# Altium footprint library KC_Amp.PCBLIB: 7 footprints
Each footprint in its own frame and in the unit in brackets; x right, y up, seen from the top. Pads: shape width x height; smd on the part's side, far side on the other; paste and mask are expansions set on the pad; w line width, h text height; cw(c..) or ccw(c..) is an arc to the next point about the centre after c.
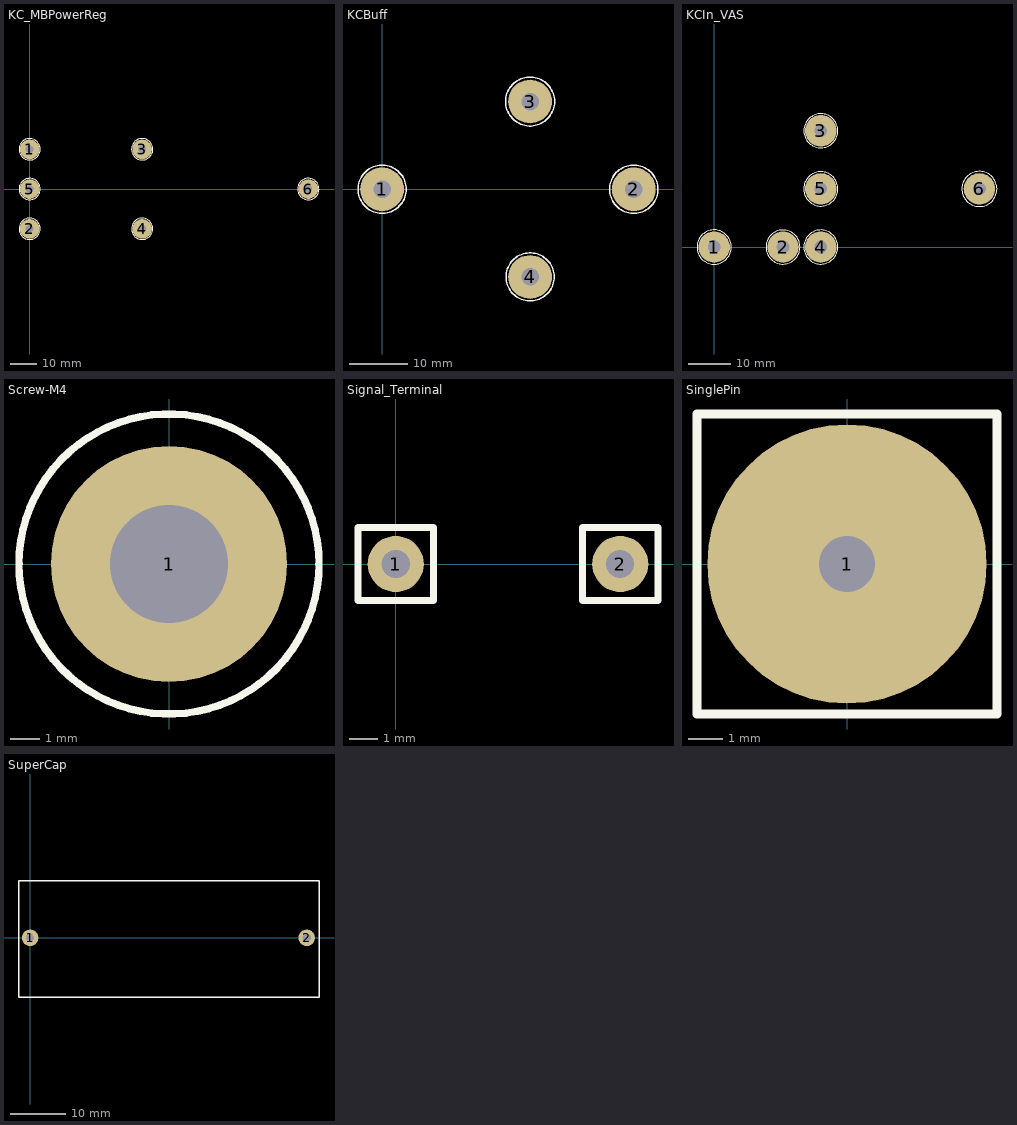
[diagram p0: the footprints below, top view; thin cyan lines are the x and y axes]

## KC_MBPowerReg [mm]
pads (6):
  round 7.5 hole 3: 1(0,15.2) 2(0,-15.2) 3(43,15.2) 4(43,-15.2) 5(0,0) 6(106.5,0)
Top Overlay:
  circle w0.254: c0,0 r4.072
  circle w0.254: c0,-15.2 r4.064
  circle w0.254: c0,15.2 r4.078
  circle w0.254: c106.5,0 r4.09
  circle w0.254: c43,15.2 r4.096
  circle w0.254: c43,-15.2 r4.066

## KCBuff [mm]
pads (4):
  round 7.5 hole 3: 1(0,0) 2(43.199,0) 3(25.397,15.05) 4(25.397,-15.05)
Top Overlay:
  circle w0.254: c0,0 r4.135
  circle w0.254: c25.397,15.05 r4.207
  circle w0.254: c43.199,0 r4.151
  circle w0.254: c25.397,-15.05 r4.13

## KCIn_VAS [mm]
pads (6):
  round 7.5 hole 3: 1(0,0) 2(16.396,0) 3(25.4,27.686) 4(25.4,0) 5(25.4,13.843) 6(63.182,13.843)
Top Overlay:
  circle w0.254: c25.4,13.843 r4.082
  circle w0.254: c63.182,13.843 r4.176
  circle w0.254: c25.4,0 r4.064
  circle w0.254: c16.396,0 r4.054
  circle w0.254: c0,0 r4.091
  circle w0.254: c25.4,27.686 r4.046

## Screw-M4 [mm]
pads (1):
  round 8 hole 4: 1(0,0)
Top Overlay:
  circle w0.254: c0,0 r5.08

## Signal_Terminal [mm] "Signal Path Pin"
pads (2):
  round 2 hole 1: 1(0,0) 2(8,0)
Top Overlay:
  lines w0.254: -1.346,-1.295 -1.346,1.295 1.346,1.295 1.346,-1.295 -1.346,-1.295 ; 6.655,-1.295 9.347,-1.295 9.347,1.295 6.655,1.295 6.655,-1.295

## SinglePin [mm] "Single Pin For Power Wire or GND"
pads (1):
  round 8 hole 1.6: 1(0,0)
Top Overlay:
  lines w0.254: -4.3,-4.3 4.3,-4.3 4.3,4.3 -4.3,4.3 -4.3,-4.3

## SuperCap [mm] "大型耦合电容 脚距50mm 宽30mm"
height 30
pads (2):
  round 3 hole 1.5: 1(0,0) 2(50,0)
Top Overlay:
  lines w0.254: -2.007,-10.693 52.222,-10.693 52.222,10.287 -2.007,10.287 -2.007,-10.693